# EAGLE library part W25X32 (library bat)
Winbond W25X32 SPI Flash
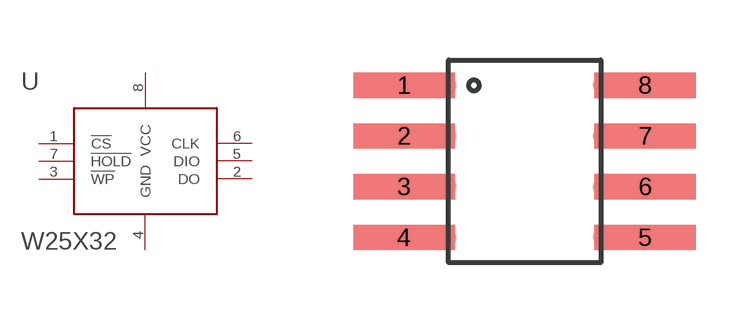
[diagram p0: symbol with the pads of SOIC8; footprint SOIC8]

Designator prefix -

## W25X32  [SOIC8]
1  !CS!  in
2  DO  out
3  !WP!  in
4  GND  pwr
5  DIO  in
6  CLK  in
7  !HOLD!  in
8  VCC  pwr

## Footprint SOIC8 (pad centres in mm)
smd 2.54 x 0.635: 1 -3.016,2.54; 2 -3.016,1.27; 3 -3.016,0; 4 -3.016,-1.27; 5 3.016,-1.27; 6 3.016,0; 7 3.016,1.27; 8 3.016,2.54